# EAGLE library part IV-3A (library IV-3A)
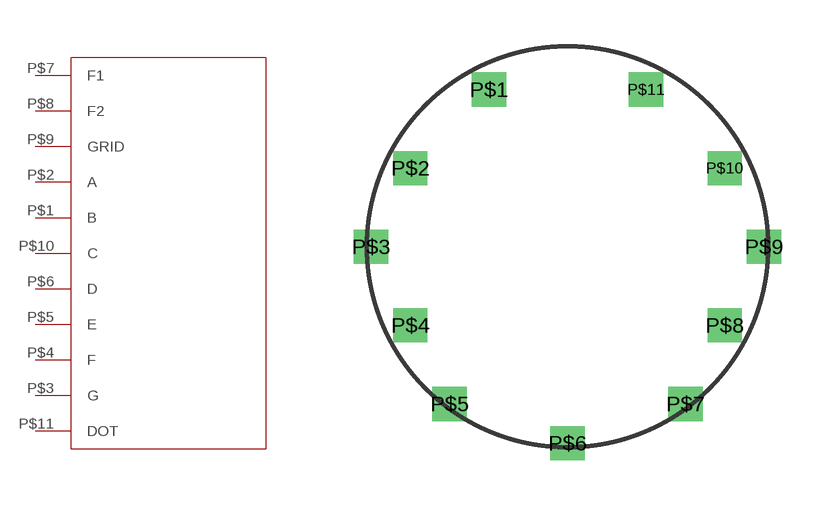
[diagram p0: symbol with the pads of IV-3A; footprint IV-3A]

Designator prefix -

## IV-3A  [IV-3A]
P$1  B
P$2  A
P$3  G
P$4  F
P$5  E
P$6  D
P$7  F1
P$8  F2
P$9  GRID
P$10  C
P$11  DOT

## Footprint IV-3A (pad centres in mm)
drill 0.6 square: P$1 -2.54,5.08; P$2 -5.08,2.54; P$3 -6.35,0; P$4 -5.08,-2.54; P$5 -3.81,-5.08; P$6 0,-6.35; P$7 3.81,-5.08; P$8 5.08,-2.54; P$9 6.35,0; P$10 5.08,2.54; P$11 2.54,5.08